# EAGLE library part TB6612FNG-MODULE (library TB6612FNG)
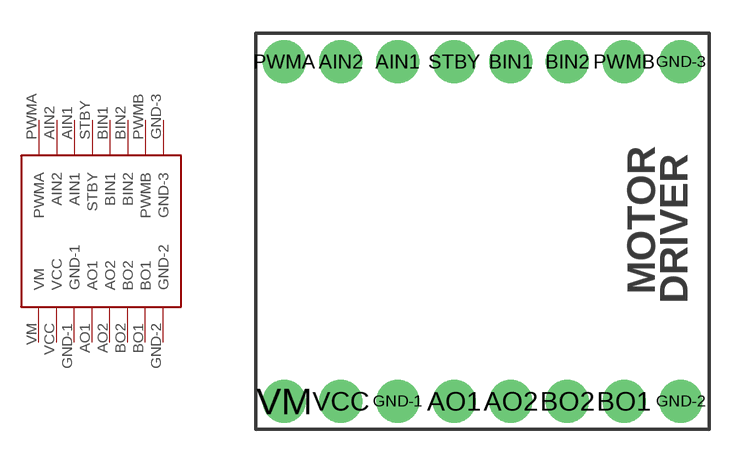
[diagram p0: symbol with the pads of TB6612-MODULE; footprint TB6612-MODULE]

Designator prefix -

## TB6612FNG-MODULE  [TB6612-MODULE]
AIN1  AIN1
AIN2  AIN2
AO1  AO1
AO2  AO2
BIN1  BIN1
BIN2  BIN2
BO1  BO1
BO2  BO2
GND-1  GND-1
GND-2  GND-2
GND-3  GND-3
PWMA  PWMA
PWMB  PWMB
STBY  STBY
VCC  VCC
VM  VM

## Footprint TB6612-MODULE (pad centres in mm)
drill 1 pad 1.93: AIN1 6.35,16.51; AIN2 3.81,16.51; AO1 8.89,1.27; AO2 11.43,1.27; BIN1 11.43,16.51; BIN2 13.97,16.51; BO1 16.51,1.27; BO2 13.97,1.27; GND-1 6.35,1.27; GND-2 19.05,1.27; GND-3 19.05,16.51; PWMA 1.27,16.51; PWMB 16.51,16.51; STBY 8.89,16.51; VCC 3.81,1.27; VM 1.27,1.27